# EAGLE library part 1410-P15D-12-11 (library 1410-P15D-12-11)
1410-P15D-12-11: Surface mountable pressure sensor package with a compensated analog output suitable for ultra-low pressure sensing applications.
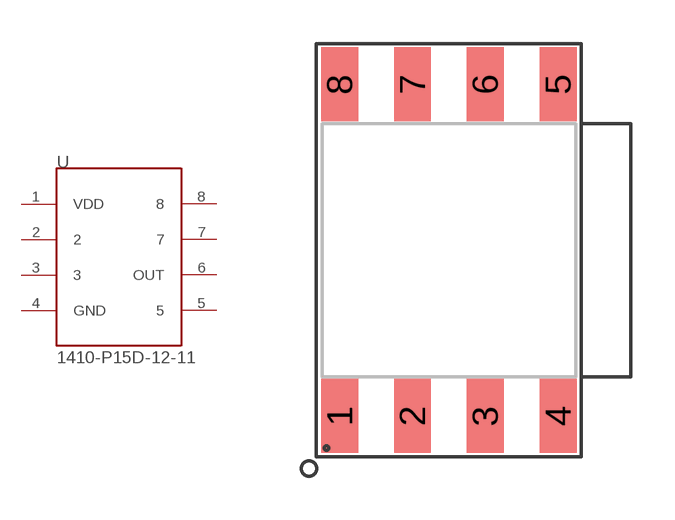
[diagram p0: symbol with the pads of 1410-P15D-12-11; footprint 1410-P15D-12-11]

Designator prefix U

## 1410-P15D-12-11  [1410-P15D-12-11]
1  VDD  pwr
2  2  nc
3  3  nc
4  GND  pwr
5  5  nc
6  OUT  out
7  7  nc
8  8  nc

## Footprint 1410-P15D-12-11 (pad centres in mm)
1410-P15D-12-11: Surface mountable pressure sensor package with a compensated analog output suitable for ultra-low pressure sensing applications. (0.15 to 1 psi (10.3 to 68.9 mbar; 1.03 to 6.89 KPa))
smd 1.27 x 2.54: 1 0,-11.4; 2 2.5,-11.4; 3 5,-11.4; 4 7.5,-11.4; 5 7.5,0; 6 5,0; 7 2.5,0; 8 0,0